# Altium footprint library Transistor.PcbLib: 227 footprints (part 1 of 15)
Each footprint in its own frame and in the unit in brackets; x right, y up, seen from the top. Pads: shape width x height; smd on the part's side, far side on the other; paste and mask are expansions set on the pad; w line width, h text height; cw(c..) or ccw(c..) is an arc to the next point about the centre after c.
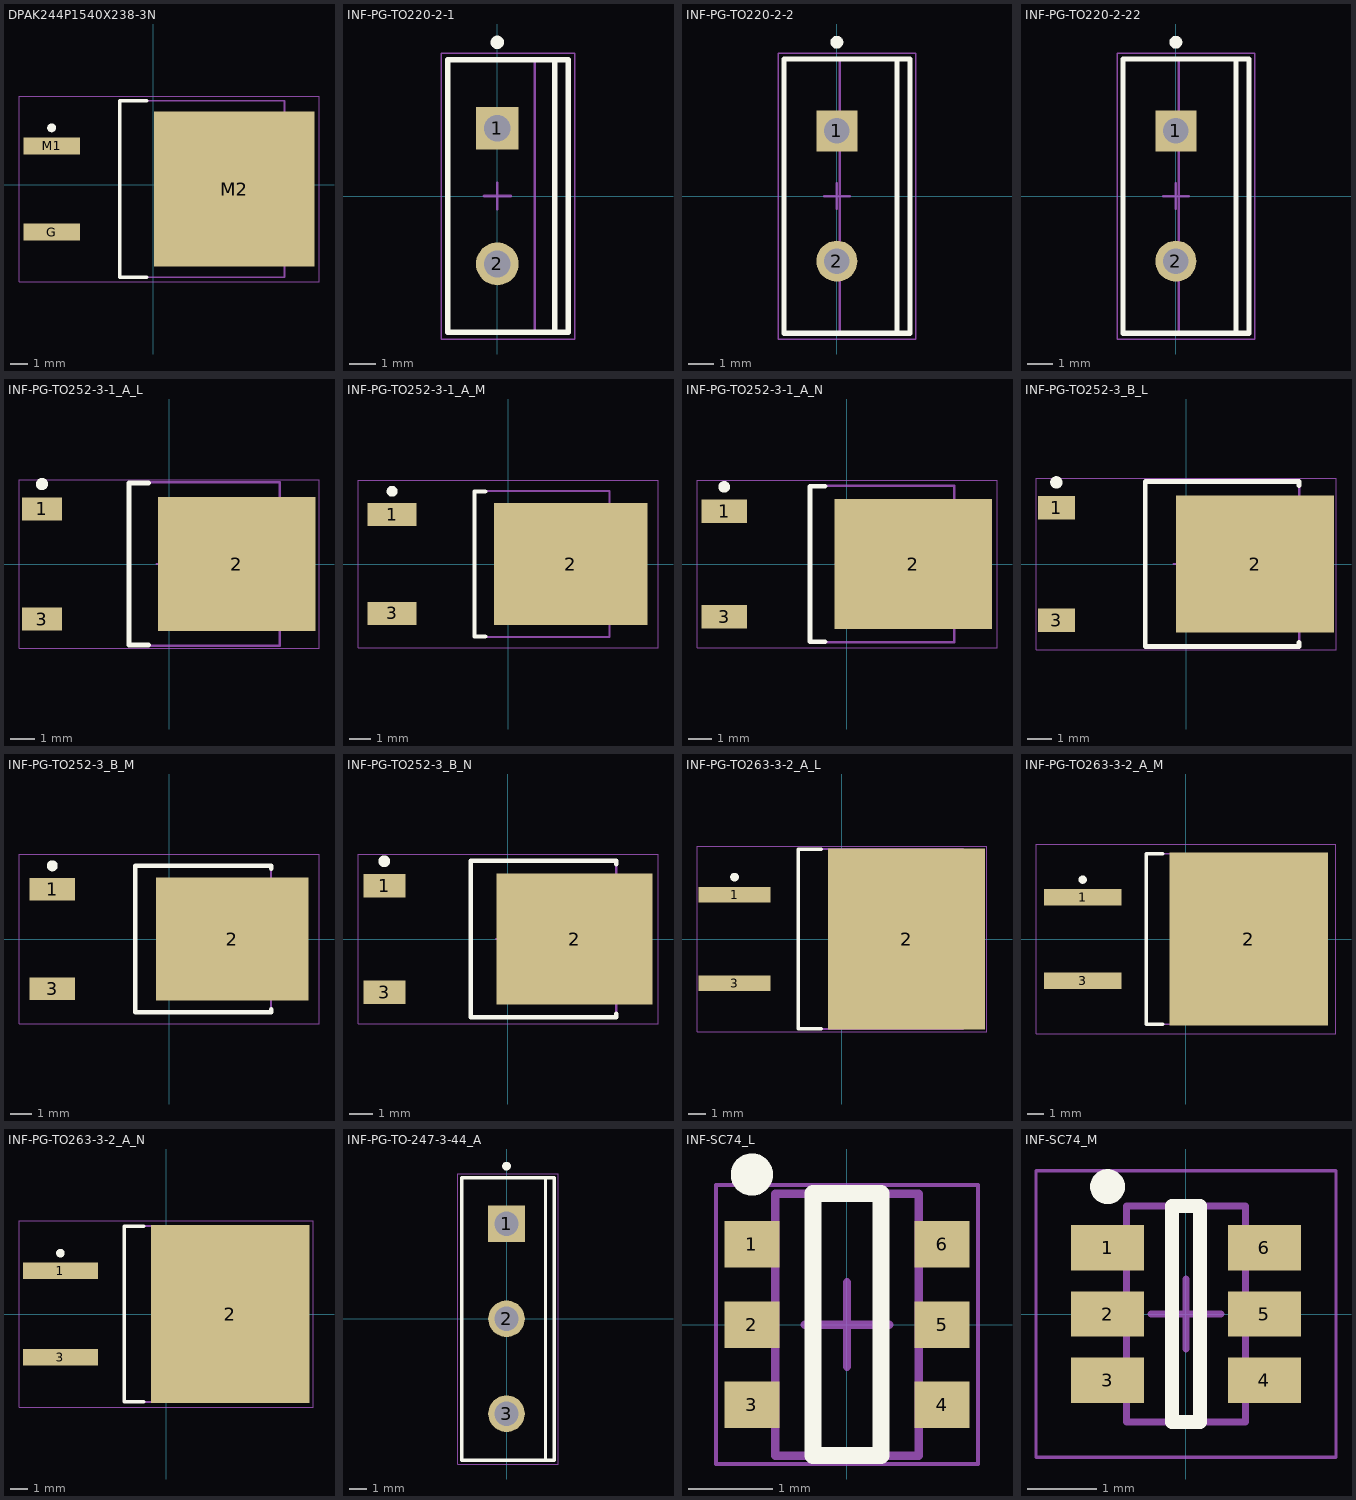
[diagram p0: the footprints below, top view; thin cyan lines are the x and y axes]

## DPAK244P1540X238-3N [mm] "D2-PAK, 3-Pads, Body 7.77x8.36mm (max), IPC Medium Density"
height 2.38
pads (3):
  rect 3.2x0.95 smd: G(-5.761,-2.694) M1(-5.761,2.186)
  rect 9.1x8.8 smd: M2(4.589,-0.254)
Top Overlay:
  circle w0.25: c-5.761,3.211 r0.125
  lines w0.2: -0.361,-5.254 -1.911,-5.254 -1.911,4.746 -0.361,4.746
Mechanical 13:
  lines w0.1: -1.911,-5.254 7.439,-5.254 7.439,4.746 -1.911,4.746 -1.911,-5.254
Mechanical 15:
  lines w0.05: -7.611,-5.504 9.389,-5.504 9.389,4.996 -7.611,4.996 -7.611,-5.504
  lines w0.1: 0.389,-0.254 1.389,-0.254 ; 0.889,-0.754 0.889,0.246
3D body "DPAK244P1540X238-3N.step": height 2.38, standoff 0, extent -6.426,-5.254 8.974,4.746

## INF-PG-TO220-2-1 [mm] "FM, 2-Leads, Body 10x4.4mm, Pitch 5.08mm"
height 19.65
pads (2):
  rect 1.6x1.6 hole 1: 1(0,2.54)
  round 1.6 hole 1: 2(0,-2.54)
Top Overlay:
  circle w0.25: c0,5.75 r0.125
  lines w0.2: 2.15,-5.1 2.15,5.1 ; -1.85,-5.1 -1.85,5.1 2.65,5.1 2.65,-5.1 -1.85,-5.1
Mechanical 13:
  lines w0.1: 1.4,-5.1 1.4,5.1 ; -1.85,-5.1 2.65,-5.1 2.65,5.1 -1.85,5.1 -1.85,-5.1
Mechanical 15:
  lines w0.05: -2.1,-5.35 2.9,-5.35 2.9,5.35 -2.1,5.35 -2.1,-5.35
  lines w0.1: -0.5,0 0.5,0 ; 0,-0.5 0,0.5
3D body: height 19.65, standoff 18.68, extent 1.4,-5 2.65,5
3D body: height 17.21, standoff 16.85, extent 1.4,-5 2.65,-1.825
3D body: height 17.21, standoff 16.85, extent 1.4,1.825 2.65,5
3D body: height 16.85, standoff 16.49, extent 1.4,-5 2.65,-1.825
3D body: height 16.85, standoff 16.49, extent 1.4,1.825 2.65,5
3D body: height 17.55, standoff 17.21, extent 1.4,-5 2.65,-1.79
3D body: height 17.55, standoff 17.21, extent 1.4,1.79 2.65,5
3D body: height 16.5, standoff 16.15, extent 1.4,-5 2.65,-1.79
3D body: height 16.5, standoff 16.15, extent 1.4,1.79 2.65,5
3D body: height 17.87, standoff 17.55, extent 1.4,-5 2.65,-1.686
3D body: height 17.87, standoff 17.55, extent 1.4,1.686 2.65,5
3D body: height 16.16, standoff 15.84, extent 1.4,-5 2.65,-1.686
3D body: height 16.16, standoff 15.84, extent 1.4,1.686 2.65,5
3D body: height 18.15, standoff 17.86, extent 1.4,-5 2.65,-1.517
3D body: height 18.15, standoff 17.86, extent 1.4,1.517 2.65,5
3D body: height 15.84, standoff 15.56, extent 1.4,-5 2.65,-1.517
3D body: height 15.84, standoff 15.56, extent 1.4,1.517 2.65,5
3D body: height 18.37, standoff 18.14, extent 1.4,-5 2.65,-1.29
3D body: height 18.37, standoff 18.14, extent 1.4,1.29 2.65,5
3D body: height 15.56, standoff 15.33, extent 1.4,-5 2.65,-1.29
3D body: height 15.56, standoff 15.33, extent 1.4,1.29 2.65,5
3D body: height 18.54, standoff 18.37, extent 1.4,-5 2.65,-1.014
3D body: height 18.54, standoff 18.37, extent 1.4,1.014 2.65,5
3D body: height 15.34, standoff 15.16, extent 1.4,-5 2.65,-1.014
3D body: height 15.34, standoff 15.16, extent 1.4,1.014 2.65,5
3D body: height 18.64, standoff 18.54, extent 1.4,-5 2.65,-0.698
3D body: height 18.64, standoff 18.54, extent 1.4,0.698 2.65,5
3D body: height 15.17, standoff 15.06, extent 1.4,-5 2.65,-0.698
3D body: height 15.17, standoff 15.06, extent 1.4,0.698 2.65,5
3D body: height 18.68, standoff 18.64, extent 1.4,-5 2.65,-0.356
3D body: height 18.68, standoff 18.64, extent 1.4,0.356 2.65,5
3D body: height 15.07, standoff 15.03, extent 1.4,-5 2.65,-0.356
3D body: height 15.07, standoff 15.03, extent 1.4,0.356 2.65,5
3D body: height 15.03, standoff 13.25, extent 1.4,-5 2.65,5
3D body: height 13.25, standoff 3.3, extent -1.85,-5.1 2.65,5.1
3D body: height 0, standoff -1.6, extent -0.25,-2.915 0.25,-2.165
3D body: height 3.3, standoff 0, extent -0.25,-3.185 0.25,-1.895
3D body: height 0, standoff -1.6, extent -0.25,2.165 0.25,2.915
3D body: height 3.3, standoff 0, extent -0.25,1.895 0.25,3.185

## INF-PG-TO220-2-2 [mm] "FM, 2-Leads, Body 10.5x4.7mm, Pitch 5.08mm"
height 19.6
pads (2):
  rect 1.6x1.6 hole 1: 1(0,2.54)
  round 1.6 hole 1: 2(0,-2.54)
Top Overlay:
  circle w0.25: c0,6 r0.125
  lines w0.2: 2.345,-5.35 2.345,5.35 ; -2.055,-5.35 2.845,-5.35 2.845,5.35 -2.055,5.35 -2.055,-5.35
Mechanical 13:
  lines w0.1: 0.12,-5.325 0.12,5.325 ; -2.03,-5.325 -2.03,5.325 2.82,5.325 2.82,-5.325 -2.03,-5.325
Mechanical 15:
  lines w0.05: -2.28,-5.575 -2.28,5.575 3.07,5.575 3.07,-5.575 -2.28,-5.575
  lines w0.1: -0.5,0 0.5,0 ; 0,-0.5 0,0.5
3D body: height 3.15, standoff 0, extent -0.25,1.965 0.25,3.115
3D body: height 0, standoff -1.6, extent -0.25,2.165 0.25,2.915
3D body: height 3.15, standoff 0, extent -0.25,-3.115 0.25,-1.965
3D body: height 0, standoff -1.6, extent -0.25,-2.915 0.25,-2.165
3D body: height 13.3, standoff 3.15, extent -2.03,-5.325 2.82,5.325
3D body: height 14.7, standoff 13.3, extent 0.12,-5.25 2.82,5.25
3D body: height 14.73, standoff 14.7, extent 0.12,0.302 2.82,5.25
3D body: height 14.73, standoff 14.7, extent 0.12,-5.25 2.82,-0.302
3D body: height 17.8, standoff 17.77, extent 0.12,0.302 2.82,5.25
3D body: height 17.8, standoff 17.77, extent 0.12,-5.25 2.82,-0.302
3D body: height 14.82, standoff 14.73, extent 0.12,0.593 2.82,5.25
3D body: height 14.82, standoff 14.73, extent 0.12,-5.25 2.82,-0.593
3D body: height 17.78, standoff 17.68, extent 0.12,0.593 2.82,5.25
3D body: height 17.78, standoff 17.68, extent 0.12,-5.25 2.82,-0.593
3D body: height 14.97, standoff 14.82, extent 0.12,0.861 2.82,5.25
3D body: height 14.97, standoff 14.82, extent 0.12,-5.25 2.82,-0.861
3D body: height 17.69, standoff 17.54, extent 0.12,0.861 2.82,5.25
3D body: height 17.69, standoff 17.54, extent 0.12,-5.25 2.82,-0.861
3D body: height 15.16, standoff 14.96, extent 0.12,1.096 2.82,5.25
3D body: height 15.16, standoff 14.96, extent 0.12,-5.25 2.82,-1.096
3D body: height 17.54, standoff 17.35, extent 0.12,1.096 2.82,5.25
3D body: height 17.54, standoff 17.35, extent 0.12,-5.25 2.82,-1.096
3D body: height 15.39, standoff 15.15, extent 0.12,1.289 2.82,5.25
3D body: height 15.39, standoff 15.15, extent 0.12,-5.25 2.82,-1.289
3D body: height 17.35, standoff 17.11, extent 0.12,1.289 2.82,5.25
3D body: height 17.35, standoff 17.11, extent 0.12,-5.25 2.82,-1.289
3D body: height 15.66, standoff 15.39, extent 0.12,1.432 2.82,5.25
3D body: height 15.66, standoff 15.39, extent 0.12,-5.25 2.82,-1.432
3D body: height 17.12, standoff 16.84, extent 0.12,1.432 2.82,5.25
3D body: height 17.12, standoff 16.84, extent 0.12,-5.25 2.82,-1.432
3D body: height 15.95, standoff 15.66, extent 0.12,1.52 2.82,5.25
3D body: height 15.95, standoff 15.66, extent 0.12,-5.25 2.82,-1.52
3D body: height 16.85, standoff 16.55, extent 0.12,1.52 2.82,5.25
3D body: height 16.85, standoff 16.55, extent 0.12,-5.25 2.82,-1.52
3D body: height 16.25, standoff 15.95, extent 0.12,1.55 2.82,5.25
3D body: height 16.25, standoff 15.95, extent 0.12,-5.25 2.82,-1.55
3D body: height 16.56, standoff 16.25, extent 0.12,1.55 2.82,5.25
3D body: height 16.56, standoff 16.25, extent 0.12,-5.25 2.82,-1.55
3D body: height 19.6, standoff 17.8, extent 0.12,-5.25 2.82,5.25

## INF-PG-TO220-2-22 [mm] "FM, 2-Leads, Body 10.5x4.7mm, Pitch 5.08mm"
height 19.6
pads (2):
  rect 1.6x1.6 hole 1: 1(0,2.54)
  round 1.6 hole 1: 2(0,-2.54)
Top Overlay:
  circle w0.25: c0,6 r0.125
  lines w0.2: 2.345,-5.35 2.345,5.35 ; -2.055,-5.35 -2.055,5.35 2.845,5.35 2.845,-5.35 -2.055,-5.35
Mechanical 13:
  lines w0.1: 0.12,-5.325 0.12,5.325 ; -2.03,-5.325 2.82,-5.325 2.82,5.325 -2.03,5.325 -2.03,-5.325
Mechanical 15:
  lines w0.05: -2.28,-5.575 3.07,-5.575 3.07,5.575 -2.28,5.575 -2.28,-5.575
  lines w0.1: -0.5,0 0.5,0 ; 0,-0.5 0,0.5
3D body: height 19.6, standoff 17.8, extent 0.12,-5.325 2.82,5.325
3D body: height 16.56, standoff 16.25, extent 0.12,-5.325 2.82,-1.55
3D body: height 16.56, standoff 16.25, extent 0.12,1.55 2.82,5.325
3D body: height 16.25, standoff 15.95, extent 0.12,-5.325 2.82,-1.55
3D body: height 16.25, standoff 15.95, extent 0.12,1.55 2.82,5.325
3D body: height 16.85, standoff 16.55, extent 0.12,-5.325 2.82,-1.52
3D body: height 16.85, standoff 16.55, extent 0.12,1.52 2.82,5.325
3D body: height 15.95, standoff 15.66, extent 0.12,-5.325 2.82,-1.52
3D body: height 15.95, standoff 15.66, extent 0.12,1.52 2.82,5.325
3D body: height 17.12, standoff 16.84, extent 0.12,-5.325 2.82,-1.432
3D body: height 17.12, standoff 16.84, extent 0.12,1.432 2.82,5.325
3D body: height 15.66, standoff 15.39, extent 0.12,-5.325 2.82,-1.432
3D body: height 15.66, standoff 15.39, extent 0.12,1.432 2.82,5.325
3D body: height 17.35, standoff 17.11, extent 0.12,-5.325 2.82,-1.289
3D body: height 17.35, standoff 17.11, extent 0.12,1.289 2.82,5.325
3D body: height 15.39, standoff 15.15, extent 0.12,-5.325 2.82,-1.289
3D body: height 15.39, standoff 15.15, extent 0.12,1.289 2.82,5.325
3D body: height 17.54, standoff 17.35, extent 0.12,-5.325 2.82,-1.096
3D body: height 17.54, standoff 17.35, extent 0.12,1.096 2.82,5.325
3D body: height 15.16, standoff 14.96, extent 0.12,-5.325 2.82,-1.096
3D body: height 15.16, standoff 14.96, extent 0.12,1.096 2.82,5.325
3D body: height 17.69, standoff 17.54, extent 0.12,-5.325 2.82,-0.861
3D body: height 17.69, standoff 17.54, extent 0.12,0.861 2.82,5.325
3D body: height 14.97, standoff 14.82, extent 0.12,-5.325 2.82,-0.861
3D body: height 14.97, standoff 14.82, extent 0.12,0.861 2.82,5.325
3D body: height 17.78, standoff 17.68, extent 0.12,-5.325 2.82,-0.593
3D body: height 17.78, standoff 17.68, extent 0.12,0.593 2.82,5.325
3D body: height 14.82, standoff 14.73, extent 0.12,-5.325 2.82,-0.593
3D body: height 14.82, standoff 14.73, extent 0.12,0.593 2.82,5.325
3D body: height 17.8, standoff 17.77, extent 0.12,-5.325 2.82,-0.302
3D body: height 17.8, standoff 17.77, extent 0.12,0.302 2.82,5.325
3D body: height 14.73, standoff 14.7, extent 0.12,-5.325 2.82,-0.302
3D body: height 14.73, standoff 14.7, extent 0.12,0.302 2.82,5.325
3D body: height 14.7, standoff 13.3, extent 0.12,-5.325 2.82,5.325
3D body: height 13.3, standoff 3.15, extent -2.03,-5.325 2.82,5.325
3D body: height 0, standoff -1.6, extent -0.25,-2.915 0.25,-2.165
3D body: height 3.15, standoff 0, extent -0.25,-3.065 0.25,-2.015
3D body: height 0, standoff -1.6, extent -0.25,2.165 0.25,2.915
3D body: height 3.15, standoff 0, extent -0.25,2.015 0.25,3.065

## INF-PG-TO252-3-1_A_L [mm] "DPAK, 3-Leads, Body 6.565x6.1mm, Pitch 2.28mm, IPC High Density"
height 2.39
pads (3):
  rect 1.65x0.95 smd: 1(-5.25,2.28) 3(-5.25,-2.28)
  rect 6.5x5.55 smd: 2(2.8,0)
Top Overlay:
  circle w0.25: c-5.25,3.305 r0.125
  lines w0.2: -0.85,-3.35 -1.65,-3.35 -1.65,3.35 -0.85,3.35
Mechanical 13:
  lines w0.1: -1.65,-3.375 -1.65,3.375 4.58,3.375 4.58,-3.375 -1.65,-3.375
Mechanical 15:
  lines w0.05: -6.2,-3.475 -6.2,3.475 6.2,3.475 6.2,-3.475 -6.2,-3.475
  lines w0.1: -0.5,0 0.5,0 ; 0,-0.5 0,0.5
3D body: height 2.39, standoff 0, extent -1.65,-3.375 4.58,3.375

## INF-PG-TO252-3-1_A_M [mm] "DPAK, 3-Leads, Body 6.565x6.1mm, Pitch 2.28mm, IPC Low Density"
height 2.39
pads (3):
  rect 2.25x1.05 smd: 1(-5.35,2.28) 3(-5.35,-2.28)
  rect 7.1x5.65 smd: 2(2.9,0)
Top Overlay:
  circle w0.25: c-5.35,3.355 r0.125
  lines w0.2: -1.05,-3.35 -1.55,-3.35 -1.55,3.35 -1.05,3.35
Mechanical 13:
  lines w0.1: -1.55,-3.375 4.68,-3.375 4.68,3.375 -1.55,3.375 -1.55,-3.375
Mechanical 15:
  lines w0.05: -6.925,-3.875 6.925,-3.875 6.925,3.875 -6.925,3.875 -6.925,-3.875
  lines w0.1: -0.5,0 0.5,0 ; 0,-0.5 0,0.5
3D body: height 2.39, standoff 0, extent -1.55,-3.375 4.68,3.375

## INF-PG-TO252-3-1_A_N [mm] "DPAK, 3-Leads, Body 6.565x6.1mm, Pitch 2.28mm, IPC Medium Density"
height 2.39
pads (3):
  rect 1.95x1 smd: 1(-5.3,2.28) 3(-5.3,-2.28)
  rect 6.8x5.6 smd: 2(2.85,0)
Top Overlay:
  circle w0.25: c-5.3,3.33 r0.125
  lines w0.2: -0.95,-3.35 -1.6,-3.35 -1.6,3.35 -0.95,3.35
Mechanical 13:
  lines w0.1: -1.6,-3.375 4.63,-3.375 4.63,3.375 -1.6,3.375 -1.6,-3.375
Mechanical 15:
  lines w0.05: -6.475,-3.625 6.475,-3.625 6.475,3.625 -6.475,3.625 -6.475,-3.625
  lines w0.1: -0.5,0 0.5,0 ; 0,-0.5 0,0.5
3D body: height 2.39, standoff 0, extent -1.6,-3.375 4.63,3.375

## INF-PG-TO252-3_B_L [mm] "DPAK, 3-Leads, Body 6.565x6.1mm, Pitch 2.28mm, IPC High Density"
height 2.39
pads (3):
  rect 1.5x0.95 smd: 1(-5.25,2.28) 3(-5.25,-2.28)
  rect 6.4x5.55 smd: 2(2.8,0)
Top Overlay:
  circle w0.25: c-5.25,3.305 r0.125
  lines w0.2: 4.58,-3.175 4.58,-3.35 -1.65,-3.35 -1.65,3.35 4.58,3.35 4.58,3.175
Mechanical 13:
  lines w0.1: -1.65,-3.375 4.58,-3.375 4.58,3.375 -1.65,3.375 -1.65,-3.375
Mechanical 15:
  lines w0.05: -6.075,-3.475 6.075,-3.475 6.075,3.475 -6.075,3.475 -6.075,-3.475
  lines w0.1: -0.5,0 0.5,0 ; 0,-0.5 0,0.5
3D body: height 2.39, standoff 0, extent -1.65,-3.375 4.58,3.375

## INF-PG-TO252-3_B_M [mm] "DPAK, 3-Leads, Body 6.565x6.1mm, Pitch 2.28mm, IPC Low Density"
height 2.39
pads (3):
  rect 2.1x1.05 smd: 1(-5.35,2.28) 3(-5.35,-2.28)
  rect 7x5.65 smd: 2(2.9,0)
Top Overlay:
  circle w0.25: c-5.35,3.355 r0.125
  lines w0.2: 4.68,-3.225 4.68,-3.35 -1.55,-3.35 -1.55,3.35 4.68,3.35 4.68,3.225
Mechanical 13:
  lines w0.1: -1.55,-3.375 4.68,-3.375 4.68,3.375 -1.55,3.375 -1.55,-3.375
Mechanical 15:
  lines w0.05: -6.875,-3.875 6.875,-3.875 6.875,3.875 -6.875,3.875 -6.875,-3.875
  lines w0.1: -0.5,0 0.5,0 ; 0,-0.5 0,0.5
3D body: height 2.39, standoff 0, extent -1.55,-3.375 4.68,3.375

## INF-PG-TO252-3_B_N [mm] "DPAK, 3-Leads, Body 6.565x6.1mm, Pitch 2.28mm, IPC Medium Density"
height 2.39
pads (3):
  rect 1.8x1 smd: 1(-5.3,2.28) 3(-5.3,-2.28)
  rect 6.7x5.6 smd: 2(2.85,0)
Top Overlay:
  circle w0.25: c-5.3,3.33 r0.125
  lines w0.2: 4.63,-3.2 4.63,-3.35 -1.6,-3.35 -1.6,3.35 4.63,3.35 4.63,3.2
Mechanical 13:
  lines w0.1: -1.6,-3.375 4.63,-3.375 4.63,3.375 -1.6,3.375 -1.6,-3.375
Mechanical 15:
  lines w0.05: -6.425,-3.625 6.425,-3.625 6.425,3.625 -6.425,3.625 -6.425,-3.625
  lines w0.1: -0.5,0 0.5,0 ; 0,-0.5 0,0.5
3D body: height 2.39, standoff 0, extent -1.6,-3.375 4.63,3.375

## INF-PG-TO263-3-2_A_L [mm] "DPAK, 3-Leads, Body 10.1x8.98mm, Pitch 2.54mm, IPC High Density"
height 4.57
pads (3):
  rect 4.1x0.9 smd: 1(-6.15,2.54) 3(-6.15,-2.54)
  rect 9x10.35 smd: 2(3.7,0)
Top Overlay:
  circle w0.25: c-6.15,3.54 r0.125
  lines w0.2: -1.2,-5.15 -2.5,-5.15 -2.5,5.15 -1.2,5.15
Mechanical 13:
  lines w0.1: -2.5,-5.15 6.95,-5.15 6.95,5.15 -2.5,5.15 -2.5,-5.15
Mechanical 15:
  lines w0.05: -8.3,-5.3 8.3,-5.3 8.3,5.3 -8.3,5.3 -8.3,-5.3
  lines w0.1: -0.5,0 0.5,0 ; 0,-0.5 0,0.5
3D body: height 4.57, standoff 0, extent -2.5,-5.15 6.95,5.15

## INF-PG-TO263-3-2_A_M [mm] "DPAK, 3-Leads, Body 10.1x8.98mm, Pitch 2.54mm, IPC Low Density"
height 4.57
pads (3):
  rect 4.7x1 smd: 1(-6.25,2.54) 3(-6.25,-2.54)
  rect 9.6x10.45 smd: 2(3.8,0)
Top Overlay:
  circle w0.25: c-6.25,3.59 r0.125
  lines w0.2: -1.4,-5.15 -2.4,-5.15 -2.4,5.15 -1.4,5.15
Mechanical 13:
  lines w0.1: -2.4,-5.15 -2.4,5.15 7.05,5.15 7.05,-5.15 -2.4,-5.15
Mechanical 15:
  lines w0.05: -9.075,-5.725 -9.075,5.725 9.075,5.725 9.075,-5.725 -9.075,-5.725
  lines w0.1: -0.5,0 0.5,0 ; 0,-0.5 0,0.5
3D body: height 4.57, standoff 0, extent -2.4,-5.15 7.05,5.15

## INF-PG-TO263-3-2_A_N [mm] "DPAK, 3-Leads, Body 10.1x8.98mm, Pitch 2.54mm, IPC Medium Density"
height 4.57
pads (3):
  rect 4.4x0.95 smd: 1(-6.2,2.54) 3(-6.2,-2.54)
  rect 9.3x10.4 smd: 2(3.75,0)
Top Overlay:
  circle w0.25: c-6.2,3.565 r0.125
  lines w0.2: -1.3,-5.15 -2.45,-5.15 -2.45,5.15 -1.3,5.15
Mechanical 13:
  lines w0.1: -2.45,-5.15 -2.45,5.15 7,5.15 7,-5.15 -2.45,-5.15
Mechanical 15:
  lines w0.05: -8.625,-5.45 -8.625,5.45 8.625,5.45 8.625,-5.45 -8.625,-5.45
  lines w0.1: -0.5,0 0.5,0 ; 0,-0.5 0,0.5
3D body: height 4.57, standoff 0, extent -2.45,-5.15 7,5.15

## INF-PG-TO-247-3-44_A [mm] "FM, 3-Leads, Body 15.915x5.02mm, Pitch 5.44mm"
height 25.57
pads (3):
  rect 2.1x2.1 hole 1.4: 1(0,5.44)
  round 2.1 hole 1.4: 2(0,0) 3(0,-5.44)
Top Overlay:
  circle w0.25: c0,8.75 r0.125
  lines w0.2: 2.235,-8.1 2.235,8.1 ; -2.565,-8.1 -2.565,8.1 2.735,8.1 2.735,-8.1 -2.565,-8.1
Mechanical 13:
  lines w0.1: 2.71,-8.075 2.71,8.075 ; 2.71,-8.075 -2.54,-8.075 -2.54,8.075 2.71,8.075 ; 2.71,-8.075 2.71,8.075
Mechanical 15:
  lines w0.05: -2.79,-8.325 2.96,-8.325 2.96,8.325 -2.79,8.325 -2.79,-8.325
  lines w0.1: -0.5,0 0.5,0 ; 0,-0.5 0,0.5
3D body: height 25.57, standoff 21.22, extent 2.71,-7.95 2.71,7.95
3D body: height 19.78, standoff 19.42, extent 2.71,-7.95 2.71,-1.8
3D body: height 19.78, standoff 19.42, extent 2.71,1.8 2.71,7.95
3D body: height 19.42, standoff 19.07, extent 2.71,-7.95 2.71,-1.8
3D body: height 19.42, standoff 19.07, extent 2.71,1.8 2.71,7.95
3D body: height 20.11, standoff 19.77, extent 2.71,-7.95 2.71,-1.765
3D body: height 20.11, standoff 19.77, extent 2.71,1.765 2.71,7.95
3D body: height 19.07, standoff 18.73, extent 2.71,-7.95 2.71,-1.765
3D body: height 19.07, standoff 18.73, extent 2.71,1.765 2.71,7.95
3D body: height 20.43, standoff 20.11, extent 2.71,-7.95 2.71,-1.663
3D body: height 20.43, standoff 20.11, extent 2.71,1.663 2.71,7.95
3D body: height 18.74, standoff 18.42, extent 2.71,-7.95 2.71,-1.663
3D body: height 18.74, standoff 18.42, extent 2.71,1.663 2.71,7.95
3D body: height 20.7, standoff 20.42, extent 2.71,-7.95 2.71,-1.497
3D body: height 20.7, standoff 20.42, extent 2.71,1.497 2.71,7.95
3D body: height 18.42, standoff 18.15, extent 2.71,-7.95 2.71,-1.497
3D body: height 18.42, standoff 18.15, extent 2.71,1.497 2.71,7.95
3D body: height 20.92, standoff 20.69, extent 2.71,-7.95 2.71,-1.273
3D body: height 20.92, standoff 20.69, extent 2.71,1.273 2.71,7.95
3D body: height 18.15, standoff 17.92, extent 2.71,-7.95 2.71,-1.273
3D body: height 18.15, standoff 17.92, extent 2.71,1.273 2.71,7.95
3D body: height 21.09, standoff 20.92, extent 2.71,-7.95 2.71,-1
3D body: height 21.09, standoff 20.92, extent 2.71,1 2.71,7.95
3D body: height 17.93, standoff 17.76, extent 2.71,-7.95 2.71,-1
3D body: height 17.93, standoff 17.76, extent 2.71,1 2.71,7.95
3D body: height 21.19, standoff 21.08, extent 2.71,-7.95 2.71,-0.689
3D body: height 21.19, standoff 21.08, extent 2.71,0.689 2.71,7.95
3D body: height 17.76, standoff 17.65, extent 2.71,-7.95 2.71,-0.689
3D body: height 17.76, standoff 17.65, extent 2.71,0.689 2.71,7.95
3D body: height 21.22, standoff 21.19, extent 2.71,-7.95 2.71,-0.351
3D body: height 21.22, standoff 21.19, extent 2.71,0.351 2.71,7.95
3D body: height 17.66, standoff 17.62, extent 2.71,-7.95 2.71,-0.351
3D body: height 17.66, standoff 17.62, extent 2.71,0.351 2.71,7.95
3D body: height 25.57, standoff 17.62, extent 2.71,-7.95 2.71,7.95
3D body: height 25.57, standoff 4.1, extent -2.54,-8.075 2.71,8.075
3D body: height 0, standoff -1.6, extent -0.31,-6.04 0.31,-4.84
3D body: height 4.1, standoff 0, extent -0.31,-6.52 0.31,-4.36
3D body: height 0, standoff -1.6, extent -0.31,-0.6 0.31,0.6
3D body: height 4.1, standoff 0, extent -0.31,-1.08 0.31,1.08
3D body: height 0, standoff -1.6, extent -0.31,4.84 0.31,6.04
3D body: height 4.1, standoff 0, extent -0.31,4.36 0.31,6.52

## INF-SC74_L [mm] "SOT23, 6-Leads, Body 2.9x1.6mm, Pitch 0.95mm, IPC High Density"
height 1.1
pads (6):
  rect 0.65x0.55 smd: 1(-1.125,0.95) 2(-1.125,0) 3(-1.125,-0.95) 4(1.125,-0.95) 5(1.125,0) 6(1.125,0.95)
Top Overlay:
  circle w0.25: c-1.125,1.775 r0.125
  lines w0.2: -0.4,-1.55 -0.4,1.55 0.4,1.55 0.4,-1.55 -0.4,-1.55
Mechanical 13:
  lines w0.1: -0.85,-1.55 0.85,-1.55 0.85,1.55 -0.85,1.55 -0.85,-1.55
Mechanical 15:
  lines w0.05: -1.55,-1.65 1.55,-1.65 1.55,1.65 -1.55,1.65 -1.55,-1.65
  lines w0.1: -0.5,0 0.5,0 ; 0,-0.5 0,0.5
3D body: height 1.1, standoff 0.1, extent -0.85,-1.55 0.85,1.55

## INF-SC74_M [mm] "SOT23, 6-Leads, Body 2.9x1.6mm, Pitch 0.95mm, IPC Low Density"
height 1.1
pads (6):
  rect 1.05x0.65 smd: 1(-1.125,0.95) 2(-1.125,0) 3(-1.125,-0.95) 4(1.125,-0.95) 5(1.125,0) 6(1.125,0.95)
Top Overlay:
  circle w0.25: c-1.125,1.825 r0.125
  lines w0.2: -0.2,-1.55 -0.2,1.55 0.2,1.55 0.2,-1.55 -0.2,-1.55
Mechanical 13:
  lines w0.1: -0.85,-1.55 0.85,-1.55 0.85,1.55 -0.85,1.55 -0.85,-1.55
Mechanical 15:
  lines w0.05: -2.15,-2.05 2.15,-2.05 2.15,2.05 -2.15,2.05 -2.15,-2.05
  lines w0.1: -0.5,0 0.5,0 ; 0,-0.5 0,0.5
3D body: height 1.1, standoff 0.1, extent -0.85,-1.55 0.85,1.55